# EAGLE library part 70247-2651 (library SamacSys_Parts)
2.54mm Pitch C-Grid Header, Dual Row, Low Profile, Right Angle, Shrouded, Circuits, 0.76m Gold (Au) Selective Plating, Tin (Sn) PC Tail Plating Source: Datasheet <https://componentsearchengine.com/Datasheets/1/70247-2651.pdf>
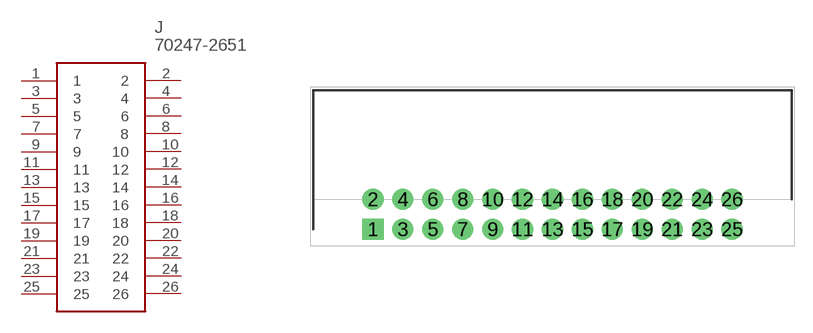
[diagram p67: symbol with the pads of 702472651; footprint 702472651]

Designator prefix J

## 70247-2651 (DESCRIPTION: 2.54mm Pitch C-Grid Header, Dual Row, Low Profile, Right Angle, Shrouded, Circuits, 0.76m Gold (Au) Selective Plating, Tin (Sn) PC Tail Plating; HEIGHT: 8.89mm; MANUFACTURER_NAME: Molex; MANUFACTURER_PART_NUMBER: 70247-2651; MOUSER_PART_NUMBER: 538-70247-2651; MOUSER_PRICE-STOCK: https://www.mouser.co.uk/ProductDetail/Molex/70247-2651?qs=jbJnFeK%2FK6zdPGRdTHbjvA%3D%3D)  [702472651]
1  1
2  2
3  3
4  4
5  5
6  6
7  7
8  8
9  9
10  10
11  11
12  12
13  13
14  14
15  15
16  16
17  17
18  18
19  19
20  20
21  21
22  22
23  23
24  24
25  25
26  26

## Footprint 702472651 (pad centres in mm)
70247-2651
drill 1.2 pad 1.8 square: 1 0,0
drill 1.2 pad 1.8: 2 0,2.54; 3 2.54,0; 4 2.54,2.54; 5 5.08,0; 6 5.08,2.54; 7 7.62,0; 8 7.62,2.54; 9 10.16,0; 10 10.16,2.54; 11 12.7,0; 12 12.7,2.54; 13 15.24,0; 14 15.24,2.54; 15 17.78,0; 16 17.78,2.54; 17 20.32,0; 18 20.32,2.54; 19 22.86,0; 20 22.86,2.54; 21 25.4,0; 22 25.4,2.54; 23 27.94,0; 24 27.94,2.54; 25 30.48,0; 26 30.48,2.54